# Altium schematic symbol library BNC-KWE-6.SCHLIB: 1 symbol
Pins are listed as number, name and electrical type; pins without a type are passive.

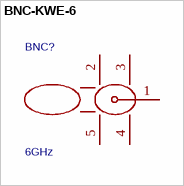
[diagram p0: symbol BNC-KWE-6]

## BNC-KWE-6
designator BNC?, comment 6GHz
Connector Type:Board Side Interface:Inner Bore Number of Ports:1 Interface Length/Height:12mm Frequency:6GHz RF Series:BNC Impedance:50Ω Style:Bent tip; Manufacturer: cntitle(中戈泰斗); Symbol: BNC-KWE-6; AddInBom: yes; ModelId: 1ee7285c1b8f4c589de2df097266f005聨0819f05c4eef4c71ace90d822a990e87; ModelName: CONN-TH_BNC-KWE-6; ModelTransform: 531.016,1338.97378,0,0,0,0,0,-470.511,-149.606; Number of Ports: 1; Interface Length/Height: 12mm; RF Series: BNC; Impedance: 50Ω; Device: BNC-KWE-6; LCSC Part Name: 内孔 BNC 弯头; SupplierPart: C20415789; ManufacturerPart: BNC-KWE-6; Supplier Footprint: 弯插; JLCPCB Part Class: Extended Part; Datasheet: https://item.szlcsc.com/datasheet/BNC-KWE-6/21743971.html; Supplier: LCSC; ConvertToPcb: yes; FootprintName: CONN-TH_BNC-KWE-6; Connector Type: Board Side; Interface: Inner Bore; Value: 6GHz; Style: Bent tip; ComponentLink1Description: New link; ComponentLink1URL: *
footprint CONN-TH_BNC-KWE-6
footprint Model Name (Footprint not found)
pins: 1, 2, 3, 4, 5